# Altium footprint library TE_CONN_3-1825910-5.PcbLib: 1 footprints
Each footprint in its own frame and in the unit in brackets; x right, y up, seen from the top. Pads: shape width x height; smd on the part's side, far side on the other; paste and mask are expansions set on the pad; w line width, h text height; cw(c..) or ccw(c..) is an arc to the next point about the centre after c.
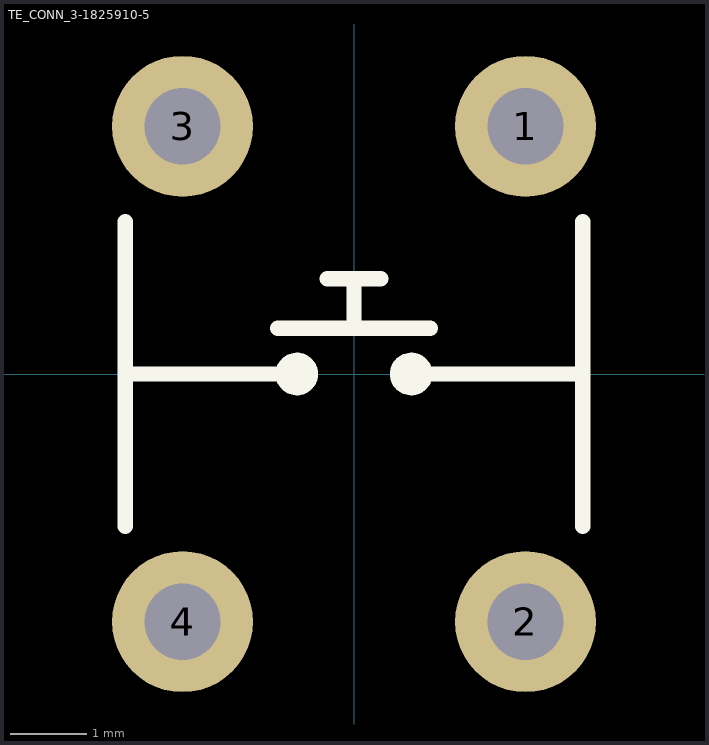
[diagram p0: the footprint, top view; thin cyan lines are the x and y axes]

## TE_CONN_3-1825910-5 [mm] "TE Connectivity Tactile Push-Button"
pads (4):
  round 1.85 hole 1 unplated: 1(2.25,3.25) 2(2.25,-3.25) 3(-2.25,3.25) 4(-2.25,-3.25)
Top Overlay:
  circle w0.2: c-0.75,0 r0.18
  circle w0.2: c0.75,0 r0.18
  lines w0.2: -3,-2 -3,2 ; -3,0 -0.75,0 ; -1,0.6 1,0.6 ; -0.35,1.25 0.35,1.25 ; 0,0.6 0,1.25 ; 0.75,0 3,0 ; 3,-2 3,2
3D body "TE_CONN_3-1825910-5.stp": height 8.5, standoff -3.51, extent -2.995,-3.9 2.995,3.9